# EAGLE library part 78LXX (library yaca)
78LXX SO-8 SMD voltage regulator
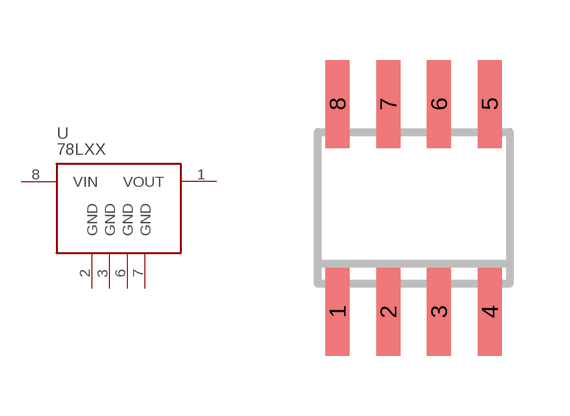
[diagram p2: symbol with the pads of SO08; footprint SO08]

Designator prefix -

## 78LXXS  [SO08]
1  VOUT
2  GND  pwr
3  GND  pwr
6  GND  pwr
7  GND  pwr
8  VIN

## Footprint SO08 (pad centres in mm)
SMALL OUTLINE INTEGRATED CIRCUIT body 3.9 mm/JEDEC MS-012AA
smd 0.6 x 2.2: 1 -1.905,-2.6; 2 -0.635,-2.6; 3 0.635,-2.6; 4 1.905,-2.6; 5 1.905,2.6; 6 0.635,2.6; 7 -0.635,2.6; 8 -1.905,2.6